# Altium schematic symbol library EP3C10E144.SchLib: 1 symbol
Pins are listed as number, name and electrical type; pins without a type are passive.

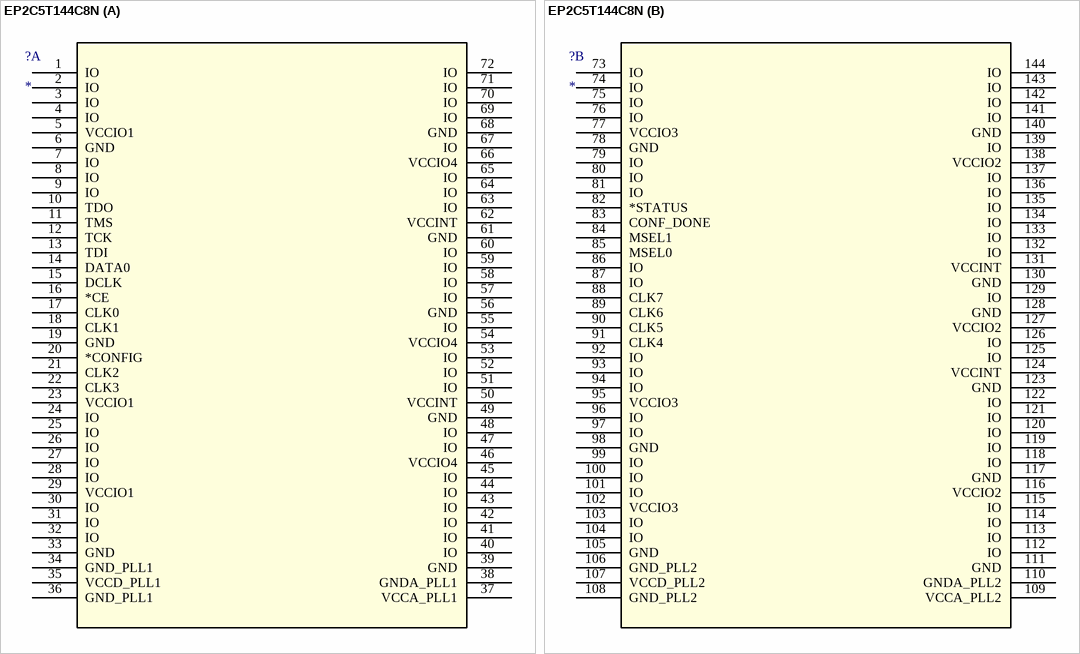
[diagram p0: symbol EP2C5T144C8N]

## EP2C5T144C8N
designator ?
Imported; Manufacturer_Part_Number: EP2C5T144C8N; Vendor: Altera; Number of I /O: 89; Number of Logic Blocks/Elements: 4608; Names Registered &amp; Trademark Names: Cyclone&amp;trade; II; Voltage: 1.2V; Voltage - Supply: 1.15 V ~ 1.25 V; Number of LABs/CLBs: 288; Total RAM Bits: 119808; C: Copyright (C) 2015 Accelerated Designs. All rights reserved; DigiKeyPartNumber: 544-1665-ND; Quantity_Available: 0; DataSheet: http://www.altera.com/literature/hb/cyc2/cyc2_cii5v1_01.pdf; Number of Gates: -; Number of Registers: -; Delay Time: -; Package / Case: 144-LQFP; Operating Temperature: 0В°C ~ 85В°C; NewarkPartNumber: 13M5012; Number of Logic Elements/Cells: 4608; Mounting Type: Surface Mount; Supplier Device Package: 144-TQFP (20x20); Copyright: Copyright (C) 2015 Accelerated Designs. All rights reserved; RefDes: RefDes; Type: DEV; Value: Value
footprint 144-TQFP
part A pins: 1 IO, 2 IO, 3 IO, 4 IO, 5 VCCIO1, 6 GND, 7 IO, 8 IO, 9 IO, 10 TDO, 11 TMS, 12 TCK, 13 TDI, 14 DATA0, 15 DCLK, 16 *CE, 17 CLK0, 18 CLK1, 19 GND, 20 *CONFIG, 21 CLK2, 22 CLK3, 23 VCCIO1, 24 IO, 25 IO, 26 IO, 27 IO, 28 IO, 29 VCCIO1, 30 IO, 31 IO, 32 IO, 33 GND, 34 GND_PLL1, 35 VCCD_PLL1, 36 GND_PLL1, 37 VCCA_PLL1, 38 GNDA_PLL1, 39 GND, 40 IO, 41 IO, 42 IO, 43 IO, 44 IO, 45 IO, 46 VCCIO4, 47 IO, 48 IO, 49 GND, 50 VCCINT, 51 IO, 52 IO, 53 IO, 54 VCCIO4, 55 IO, 56 GND, 57 IO, 58 IO, 59 IO, 60 IO, 61 GND, 62 VCCINT, 63 IO, 64 IO, 65 IO, 66 VCCIO4, 67 IO, 68 GND, 69 IO, 70 IO, 71 IO, 72 IO
part B pins: 73 IO, 74 IO, 75 IO, 76 IO, 77 VCCIO3, 78 GND, 79 IO, 80 IO, 81 IO, 82 *STATUS, 83 CONF_DONE, 84 MSEL1, 85 MSEL0, 86 IO, 87 IO, 88 CLK7, 89 CLK6, 90 CLK5, 91 CLK4, 92 IO, 93 IO, 94 IO, 95 VCCIO3, 96 IO, 97 IO, 98 GND, 99 IO, 100 IO, 101 IO, 102 VCCIO3, 103 IO, 104 IO, 105 GND, 106 GND_PLL2, 107 VCCD_PLL2, 108 GND_PLL2, 109 VCCA_PLL2, 110 GNDA_PLL2, 111 GND, 112 IO, 113 IO, 114 IO, 115 IO, 116 VCCIO2, 117 GND, 118 IO, 119 IO, 120 IO, 121 IO, 122 IO, 123 GND, 124 VCCINT, 125 IO, 126 IO, 127 VCCIO2, 128 GND, 129 IO, 130 GND, 131 VCCINT, 132 IO, 133 IO, 134 IO, 135 IO, 136 IO, 137 IO, 138 VCCIO2, 139 IO, 140 GND, 141 IO, 142 IO, 143 IO, 144 IO